# EAGLE library part MCP73861 (library 0_jc-custom-eagle6)
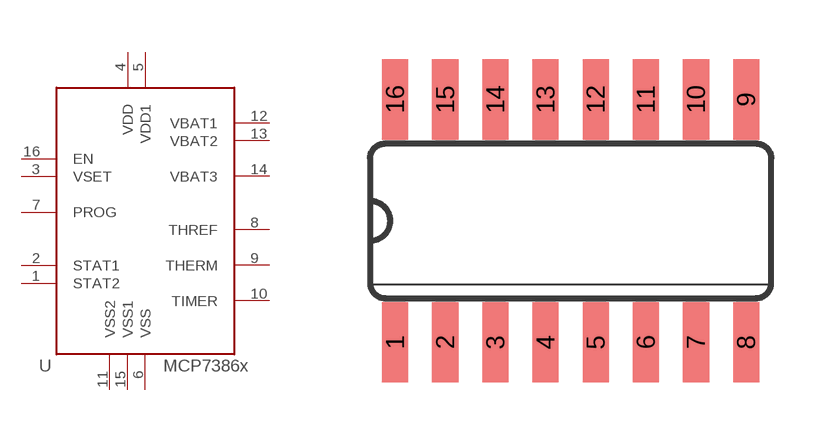
[diagram p2: symbol with the pads of SO16-150MIL; footprint SO16-150MIL]

Designator prefix -

## MCP73861SO16  [SO16-150MIL]
1  STAT2  out
2  STAT1  out
3  VSET  in
4  VDD  pwr
5  VDD1  pwr
6  VSS  pwr
7  PROG  pas
8  THREF  pas
9  THERM  pas
10  TIMER  pas
11  VSS2  pwr
12  VBAT1  in
13  VBAT2  in
14  VBAT3  in
15  VSS1  pwr
16  EN  in

## Footprint SO16-150MIL (pad centres in mm)
Small Outline Package 150mil
smd 0.66 x 2.032: 1 -4.445,-3.073; 2 -3.175,-3.073; 3 -1.905,-3.073; 4 -0.635,-3.073; 5 0.635,-3.073; 6 1.905,-3.073; 7 3.175,-3.073; 8 4.445,-3.073; 9 4.445,3.073; 10 3.175,3.073; 11 1.905,3.073; 12 0.635,3.073; 13 -0.635,3.073; 14 -1.905,3.073; 15 -3.175,3.073; 16 -4.445,3.073